# EAGLE library part LORA_BREAKOUT_V1 (library cosmic-id)
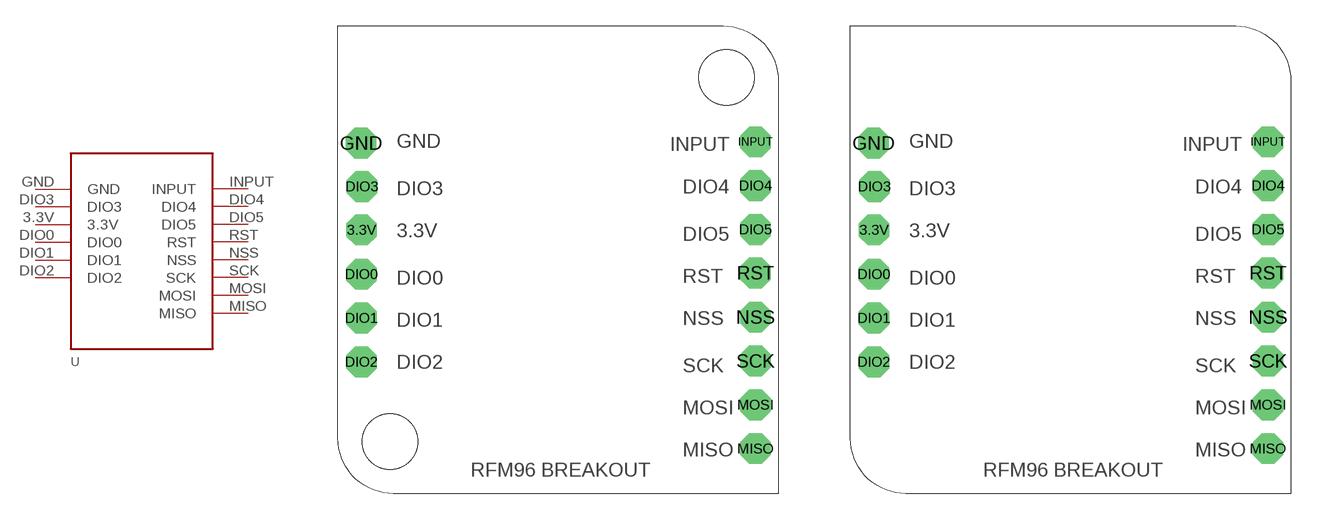
[diagram p1: symbol with the pads of LORA_BREAKOUT; footprints LORA_BREAKOUT, LORA_BREAKOUT_NO_DRILL]

Designator prefix -

## LORA_BREAKOUT_V1DRILL  [LORA_BREAKOUT]
3.3V  3.3V
DIO0  DIO0
DIO1  DIO1
DIO2  DIO2
DIO3  DIO3
DIO4  DIO4
DIO5  DIO5
GND  GND
INPUT  INPUT
MISO  MISO
MOSI  MOSI
NSS  NSS
RST  RST
SCK  SCK

## LORA_BREAKOUT_V1NO_DRILL  [LORA_BREAKOUT_NO_DRILL]
Pads as for LORA_BREAKOUT

## Footprint LORA_BREAKOUT (pad centres in mm)
drill 1 pad 1.778 octagon: 3.3V -11.303,1.448; DIO0 -11.303,-1.118; DIO1 -11.303,-3.658; DIO2 -11.303,-6.198; DIO3 -11.278,3.962; DIO4 11.506,4.013; DIO5 11.506,1.473; GND -11.328,6.477; INPUT 11.506,6.553; MISO 11.506,-11.227; MOSI 11.506,-8.687; NSS 11.506,-3.607; RST 11.506,-1.041; SCK 11.506,-6.147
hole 3.2 at 9.83,10.287
hole 3.2 at -9.652,-10.82

## Footprint LORA_BREAKOUT_NO_DRILL (pad centres in mm)
drill 1 pad 1.778 octagon: 3.3V -11.303,1.448; DIO0 -11.303,-1.118; DIO1 -11.303,-3.658; DIO2 -11.303,-6.198; DIO3 -11.278,3.962; DIO4 11.506,4.013; DIO5 11.506,1.473; GND -11.328,6.477; INPUT 11.506,6.553; MISO 11.506,-11.227; MOSI 11.506,-8.687; NSS 11.506,-3.607; RST 11.506,-1.041; SCK 11.506,-6.147